# EAGLE library part ARD-NANO30NP (library AREA)
Development Boards & Kits - AVR Arduino Nano 3.1 W/ATMEGA328 NO-PIN Source: Datasheet <http://www.mouser.com/datasheet/2/595/Arduino_Nano3_0-220057.pdf>
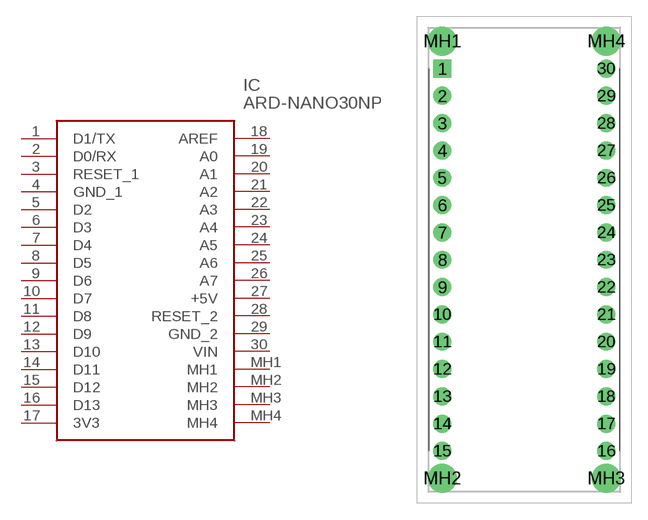
[diagram p6: symbol with the pads of ARDNANO30NP; footprint ARDNANO30NP]

Designator prefix IC

## ARD-NANO30NPNANO (DESCRIPTION: Development Boards & Kits - AVR Arduino Nano 3.1 W/ATMEGA328 NO-PIN; HEIGHT: 5mm; MANUFACTURER_NAME: Gravitech; MANUFACTURER_PART_NUMBER: ARD-NANO30NP; MOUSER_PART_NUMBER: 992-ARD-NANO30NP; MOUSER_PRICE-STOCK: https://www.mouser.com/Search/Refine.aspx?Keyword=992-ARD-NANO30NP)  [ARDNANO30NP]
1  D1/TX
2  D0/RX
3  RESET_1
4  GND_1
5  D2
6  D3
7  D4
8  D5
9  D6
10  D7
11  D8
12  D9
13  D10
14  D11
15  D12
16  D13
17  3V3
18  AREF
19  A0
20  A1
21  A2
22  A3
23  A4
24  A5
25  A6
26  A7
27  +5V
28  RESET_2
29  GND_2
30  VIN
MH1  MH1
MH2  MH2
MH3  MH3
MH4  MH4

## Footprint ARDNANO30NP (pad centres in mm)
ARD-NANO30NP-4
drill 1.11 pad 1.665 square: 1 0,0
drill 1.11 pad 1.665: 2 0,-2.54; 3 0,-5.08; 4 0,-7.62; 5 0,-10.16; 6 0,-12.7; 7 0,-15.24; 8 0,-17.78; 9 0,-20.32; 10 0,-22.86; 11 0,-25.4; 12 0,-27.94; 13 0,-30.48; 14 0,-33.02; 15 0,-35.56; 16 15.24,-35.56; 17 15.24,-33.02; 18 15.24,-30.48; 19 15.24,-27.94; 20 15.24,-25.4; 21 15.24,-22.86; 22 15.24,-20.32; 23 15.24,-17.78; 24 15.24,-15.24; 25 15.24,-12.7; 26 15.24,-10.16; 27 15.24,-7.62; 28 15.24,-5.08; 29 15.24,-2.54; 30 15.24,0
drill 1.778 pad 2.667: MH1 0,2.54; MH2 0,-38.1; MH3 15.24,-38.1; MH4 15.24,2.54